# Altium footprint library DIOAD1845W125L780D800.PcbLib: 1 footprints
Each footprint in its own frame and in the unit in brackets; x right, y up, seen from the top. Pads: shape width x height; smd on the part's side, far side on the other; paste and mask are expansions set on the pad; w line width, h text height; cw(c..) or ccw(c..) is an arc to the next point about the centre after c.
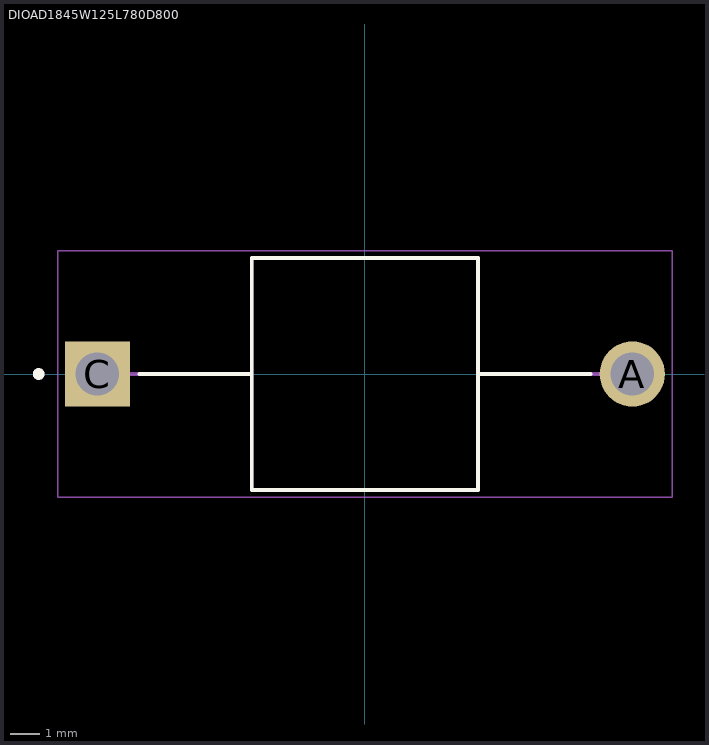
[diagram p0: the footprint, top view; thin cyan lines are the x and y axes]

## DIOAD1845W125L780D800 [mm]
pads (2):
  round 2.25 hole 1.5: A(9.225,0)
  rect 2.25x2.25 hole 1.5: C(-9.225,0)
Top Overlay:
  circle w0.2: c-11.25,0 r0.1
  lines w0.127: -7.78,0 -3.9,0 ; 7.78,0 3.9,0 ; -3.9,0 -3.9,4 3.9,4 3.9,0 ; -3.9,0 -3.9,-4 3.9,-4 3.9,0
Mechanical 13:
  circle w0.2: c-11.25,0 r0.1
  lines w0.127: -9.225,0 -3.9,0 ; 9.225,0 3.9,0 ; -3.9,0 -3.9,4 3.9,4 3.9,0 ; -3.9,0 -3.9,-4 3.9,-4 3.9,0
Mechanical 15:
  lines w0.05: -10.6,-4.25 -10.6,4.25 10.6,4.25 10.6,-4.25 -10.6,-4.25